# Altium footprint library XTAL.PcbLib: 34 footprints (part 3 of 3)
Each footprint in its own frame and in the unit in brackets; x right, y up, seen from the top. Pads: shape width x height; smd on the part's side, far side on the other; paste and mask are expansions set on the pad; w line width, h text height; cw(c..) or ccw(c..) is an arc to the next point about the centre after c.
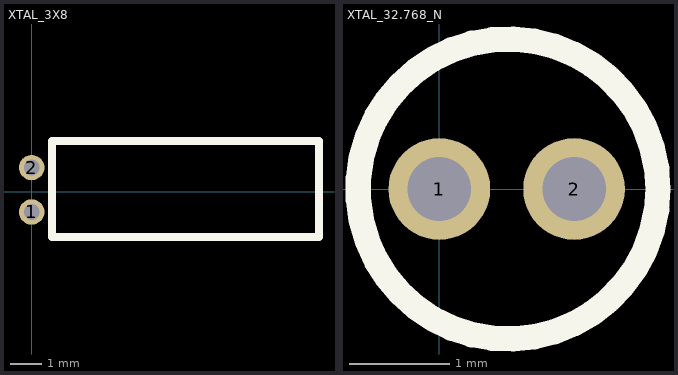
[diagram p2: the footprints below, top view; thin cyan lines are the x and y axes]

## XTAL_3X8 [mm]
pads (2):
  round 0.8 hole 0.5: 1(0,-0.635) 2(0,0.762)
Top Overlay:
  lines w0.254: 0.635,-1.422 9.042,-1.422 9.042,1.6 0.635,1.6 0.635,-1.422
3D body: height 3, standoff 0, extent 0.912,-1.436 8.912,1.552

## XTAL_32.768_N [mil] "32.768k柱式晶振（未加焊）"
height 314.96
pads (2):
  round 40 hole 25: 1(0,0) 2(53,0)
Top Overlay:
  circle w10: c27,0 r59
3D body "CRYSTAL_N.stp": height 354.33, standoff -118.11, extent -35,-49.06 83.11,69.06